# Altium schematic symbol library Crystals.SchLib: 9 symbols
Pins are listed as number, name and electrical type; pins without a type are passive.

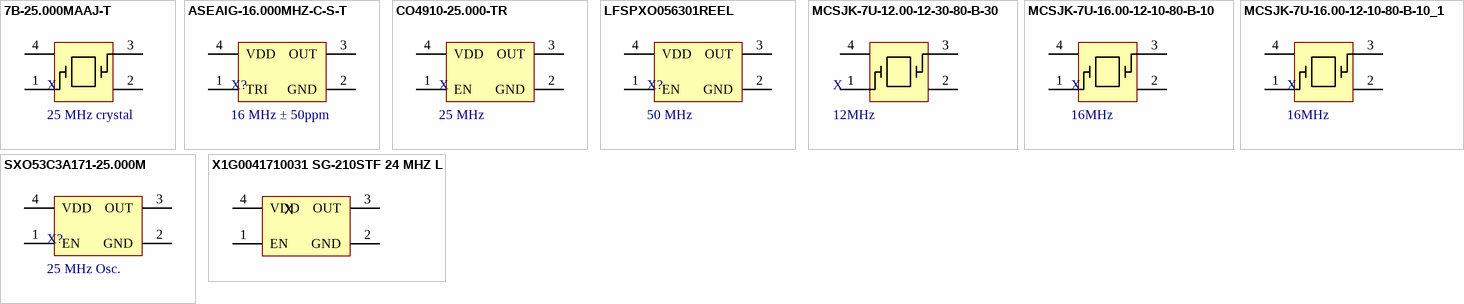
[diagram p0: symbols 7B-25.000MAAJ-T to X1G0041710031 SG-210STF 24 MHZ L]

## 7B-25.000MAAJ-T
designator X, comment 25 MHz crystal
footprint 7B-25.000MAAJ-T
pins: 1 2, 2, 3 2, 4

## ASEAIG-16.000MHZ-C-S-T
designator X?, comment 16 MHz ± 50ppm
Oscillator 16 MHz ± 50ppm; Supplier 1: Digi-Key; Supplier Part Number 1: 535-ASEAIG-16.000MHZ-C-S-TCT-ND
footprint ASEAIG-16.000MHZ-C-S-T
pins: 1 TRI, 2 GND, 3 OUT, 4 VDD

## CO4910-25.000-TR
designator X, comment 25 MHz
Oscillator 25 MHz
footprint CO4910-25.000-TR
pins: 1 EN, 2 GND, 3 OUT, 4 VDD

## LFSPXO056301REEL
designator X?, comment 50 MHz
50 MHz oscillator ± 50ppm; Supplier Part Number 1: 1923-1678-1-ND; Supplier 1: Digi-Key
footprint LFSPXO056301REEL
pins: 1 EN, 2 GND, 3 OUT, 4 VDD

## MCSJK-7U-12.00-12-30-80-B-30
designator X, comment 12MHz
Crystal 12MHz 3.2mm x 2.5mm; Supplier Part Number 1: 2853917; Supplier 1: Farnell
footprint MCSJK-7U-12.00-12-30-80-B-30
pins: 1 2, 2, 3 2, 4

## MCSJK-7U-16.00-12-10-80-B-10
designator X, comment 16MHz
Crystal 16MHx 3.2mm x 2.5mm; Supplier 1: Farnell; Supplier Part Number 1: 2853936
footprint MCSJK-7U-16.00-12-10-80-B-10
pins: 1 2, 2, 3 2, 4

## MCSJK-7U-16.00-12-10-80-B-10_1
designator X, comment 16MHz
Crystal 25MHx 3.2mm x 2.5mm, 16pF; Supplier 1: Farnell; Supplier Part Number 1: 1674655
footprint MCSJK-7U-16.00-12-10-80-B-10
pins: 1 2, 2, 3 2, 4

## SXO53C3A171-25.000M
designator X?, comment 25 MHz Osc.
25 MHz oscillator +- 50ppm; Supplier Part Number 1: 2388-SXO53C3A171-25.000M-ND; Supplier 1: Digi-Key
footprint SXO53C3A171-25.000M
pins: 1 EN, 2 GND, 3 OUT, 4 VDD

## X1G0041710031 SG-210STF 24 MHZ L
designator X
Oscillator 3.2mm x 2.5mm
footprint MCSJK-7U-12.00-12-30-80-B-30
pins: 1 EN, 2 GND, 3 OUT, 4 VDD